# EAGLE library part 805-318/000-006 (library con-wago_805)
Stand: 01.01.2014. Die jeweils aktuellen Daten zu diesem Artikel finden Sie in unserem Produktkatalog, den Sie unter www.wago.com einsehen können. As of: 01/01/2014. Please find the newest data for this article in our product catalogue, which can be viewed under www.wago.com.
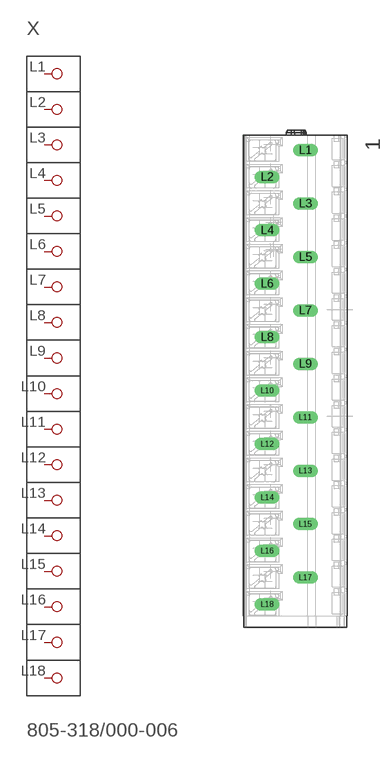
[diagram p69: symbol with the pads of P-805-318; footprint P-805-318]

Designator prefix X

## 805-318/000-006  [P-805-318]
L1  P1
L2  P2
L3  P3
L4  P4
L5  P5
L6  P6
L7  P7
L8  P8
L9  P9
L10  P10
L11  P11
L12  P12
L13  P13
L14  P14
L15  P15
L16  P16
L17  P17
L18  P18

## Footprint P-805-318 (pad centres in mm)
drill 1.1 long: L1 0.939,29.95; L2 -4.061,26.45; L3 0.939,22.95; L4 -4.061,19.45; L5 0.939,15.95; L6 -4.061,12.45; L7 0.939,8.95; L8 -4.061,5.45; L9 0.939,1.95; L10 -4.061,-1.55; L11 0.939,-5.05; L12 -4.061,-8.55; L13 0.939,-12.05; L14 -4.061,-15.55; L15 0.939,-19.05; L16 -4.061,-22.55; L17 0.939,-26.05; L18 -4.061,-29.55